# Altium schematic symbol library Battery Management.SchLib: 4 symbols
Pins are listed as number, name and electrical type; pins without a type are passive.

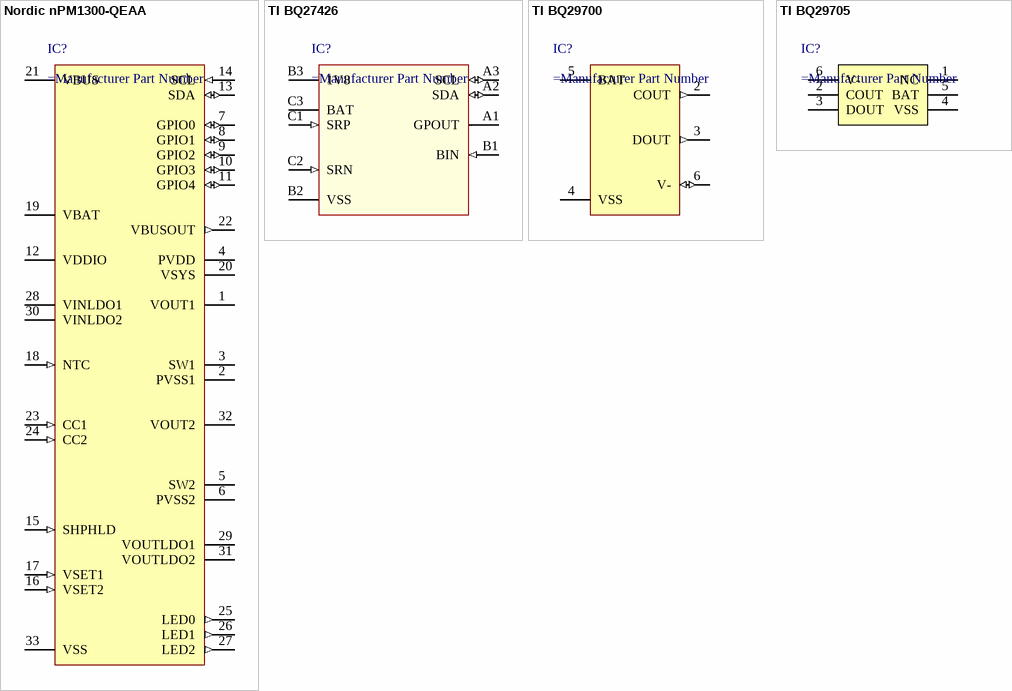
[diagram p0: symbols Nordic nPM1300-QEAA to TI BQ29705]

## Nordic nPM1300-QEAA
designator IC?
Li-Ion/Li-Polymer USB-C battery charger with high efficiency buck regulators, LDOs or load switches, LED drivers, TWI and VBUSOUT
footprint QFN50P500X500X90-33N
pins: 1 VOUT1 (power), 2 PVSS1 (power), 3 SW1 (power), 4 PVDD (power), 5 SW2 (power), 6 PVSS2 (power), 7 GPIO0 (io), 8 GPIO1 (io), 9 GPIO2 (io), 10 GPIO3 (io), 11 GPIO4 (io), 12 VDDIO (power), 13 SDA (io), 14 SCL (in), 15 SHPHLD (in), 16 VSET2 (in), 17 VSET1 (in), 18 NTC (in), 19 VBAT (power), 20 VSYS (power), 21 VBUS (power), 22 VBUSOUT (out), 23 CC1 (in), 24 CC2 (in), 25 LED0 (out), 26 LED1 (out), 27 LED2 (out), 28 VINLDO1 (power), 29 VOUTLDO1 (power), 30 VINLDO2 (power), 31 VOUTLDO2 (power), 32 VOUT2 (power), 33 VSS (power)

## TI BQ27426
designator IC?
Single cell System-side battery fuel (gas) gauge w/Pre-programmed chemistry Profile 9-DSBGA -40 to 85
footprint TI DSBGA-9 1.61x1651mm (DSBGA - 0.625 mm max heigh)
pins: A1 GPOUT (oc), A2 SDA (io), A3 SCL (io), B1 BIN (in), B2 VSS (power), B3 1V8 (power), C1 SRP (in), C2 SRN (in), C3 BAT (power)

## TI BQ29700
designator IC?
Li-Ion/Li Polymer Advanced Single-Cell Battery Protector IC Family 6-WSON -40 to 85
footprint TI WSON-6 1.55x1.55mm
pins: 2 COUT (out), 3 DOUT (out), 4 VSS (power), 5 BAT (power), 6 V- (io)

## TI BQ29705
designator IC?
BQ297xx Cost-Effective Voltage and Current Protection Integrated Circuit for SingleCell Li-Ion and Li-Polymer Batteries
footprint TI S-PDSO-N6 150x150x80
pins: 1 NC, 2 COUT, 3 DOUT, 4 VSS, 5 BAT, 6 V-